# Altium integrated library Misc Connector.IntLib: 28 symbols
Pins are listed as number, name and electrical type; pins without a type are passive.

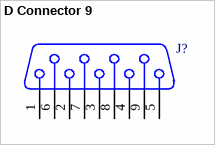
[diagram p0: symbol D Connector 9]

## D Connector 9
designator J?
Receptacle Assembly, 9 Position, Right Angle; PackageDocument: O; Positions: 9; Published: 15-Jun-2001; LatestRevisionDate: 17-Jul-2002; LatestRevisionNote: Re-released for DXP Platform.; DatasheetDocument: 1-Sep-1999; PackageReference: 788750; Publisher: Altium Limited; Orientation: Right Angle; Gender: Receptacle
footprint DSUB1.385-2H9 (Connector; D Subminiature; 9 Position; Right Angle; Pitch 1.385 mm)
footprint DSUB1.385-2H9 (Connector; D Subminiature; 9 Position; Right Angle; Pitch 1.385 mm)
footprint DSUB1.385-2H9 (Connector; D Subminiature; 9 Position; Right Angle; Pitch 1.385 mm)
pins: 1, 2, 3, 4, 5, 6, 7, 8, 9, 10 MH1 hidden, 11 MH2 hidden


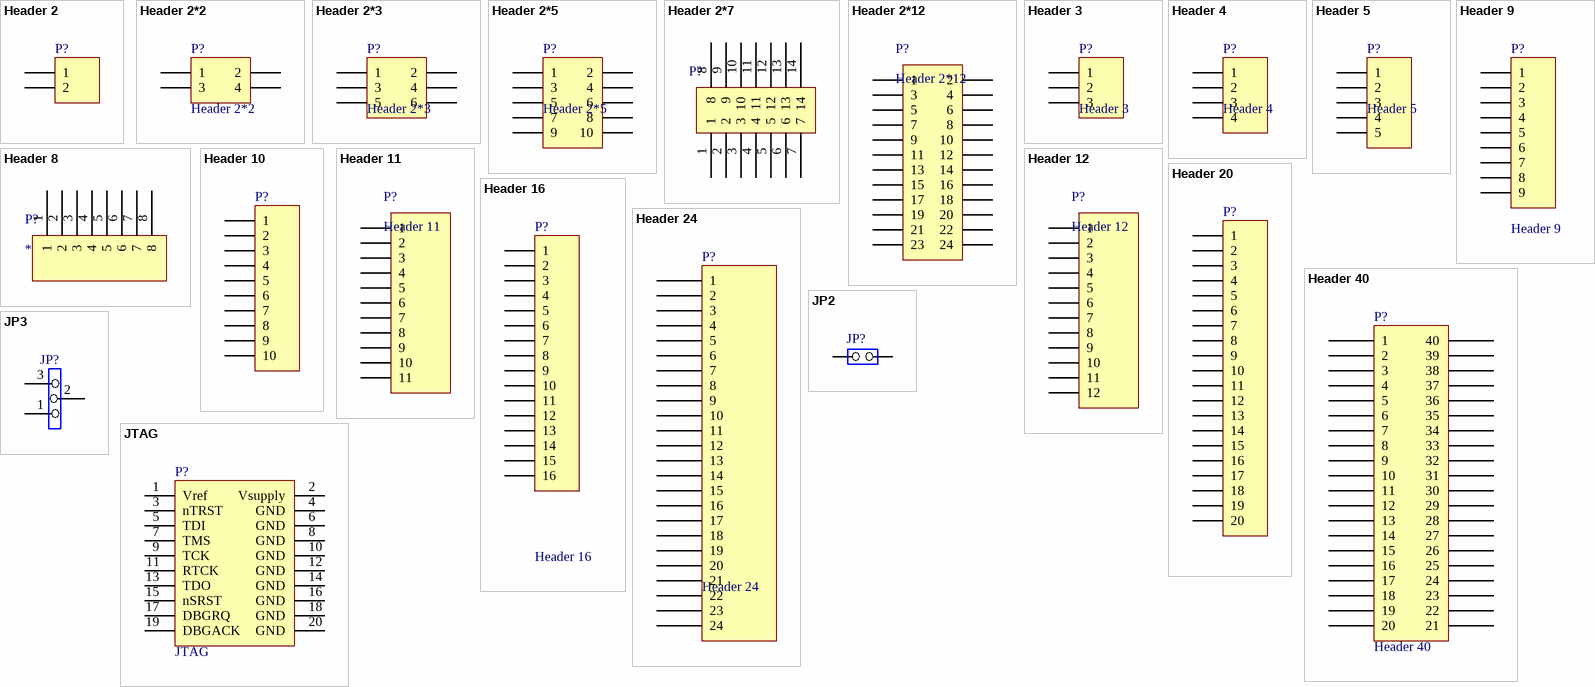
[diagram p1: symbols Header 2 to JTAG]

## Header 2
designator P?
Header, 2-Pin; LatestRevisionDate: 17-Jul-2002; LatestRevisionNote: Re-released for DXP Platform.; Publisher: Altium Limited
footprint HDR1X2 (Connector; Header; 2 Position)
signal-integrity model Connector
pins: 1, 2

## Header 2*2
designator P?
Header, 4-Pin, Dual row
footprint HDR2X2 (Connector; Header; 2x2 Position)
signal-integrity model Connector
pins: 1, 2, 3, 4

## Header 2*3
designator P?
Header, 6-Pin, Dual row
signal-integrity model Connector
footprint HDR2X3T0.05 (Connector; Header; 2x3 Position)
pins: 1, 2, 3, 4, 5, 6

## Header 2*5
designator P?
Header, 10-Pin, Dual row
signal-integrity model Connector
footprint HDRSMT2x5 (Connector; Header; 2*5 Position; SMT)
footprint HDR2X5T0.1 (Connector; Header; 2x5 Position; 2.54mm Pitch)
pins: 1, 2, 3, 4, 5, 6, 7, 8, 9, 10

## Header 2*7
designator P?
Header, 14-Pin, Dual row
footprint HDR2X7_NJZ (Connector; Header; 7x2 Position)
pins: 1, 2, 3, 4, 5, 6, 7, 8, 9, 10, 11, 12, 13, 14

## Header 2*12
designator P?
Header, 24-Pin, Dual row
footprint HDR2X12S0.05 (Header 2*12 PIN, 1.27mm, SMT)
pins: 1, 2, 3, 4, 5, 6, 7, 8, 9, 10, 11, 12, 13, 14, 15, 16, 17, 18, 19, 20, 21, 22, 23, 24

## Header 3
designator P?
Header, 3-Pin; LatestRevisionDate: 17-Jul-2002; LatestRevisionNote: Re-released for DXP Platform.; Publisher: Altium Limited
signal-integrity model Connector
footprint HDR1X3 (Connector; Header; 3 Position)
pins: 1, 2, 3

## Header 4
designator P?
Header, 4-Pin; LatestRevisionDate: 17-Jul-2002; LatestRevisionNote: Re-released for DXP Platform.; Publisher: Altium Limited
signal-integrity model Connector
footprint HDR1X4 (Connector; Header; 4 Position)
footprint HDR1X4T0.05 (Connector; Header; 4 Position)
pins: 1, 2, 3, 4

## Header 5
designator P?
Header, 5-Pin; LatestRevisionDate: 17-Jul-2002; LatestRevisionNote: Re-released for DXP Platform.; Publisher: Altium Limited
footprint HDR1X5 (Connector; Header; 5 Position)
pins: 1, 2, 3, 4, 5

## Header 8
designator P?
Header, 8-Pin
footprint HDR1X8 (Connector; Header; 8 Position)
pins: 1, 2, 3, 4, 5, 6, 7, 8

## Header 9
designator P?
Header, 9-Pin; LatestRevisionDate: 17-Jul-2002; LatestRevisionNote: Re-released for DXP Platform.; Publisher: Altium Limited
signal-integrity model Connector
footprint HDR1X9T0.05 (Connector; Header; 9 Position)
pins: 1, 2, 3, 4, 5, 6, 7, 8, 9

## Header 10
designator P?
Header, 10-Pin; LatestRevisionDate: 17-Jul-2002; LatestRevisionNote: Re-released for DXP Platform.; Publisher: Altium Limited
footprint HDR1X10 (Connector; Header; 10 Position)
signal-integrity model Connector
footprint HDR1X10T0.05 (Connector; Header; 10 Position)
pins: 1, 2, 3, 4, 5, 6, 7, 8, 9, 10

## Header 11
designator P?
Header, 11-Pin
footprint HDR1X11S0.05 (Header 11 PIN, 1.27mm, SMT)
pins: 1, 2, 3, 4, 5, 6, 7, 8, 9, 10, 11

## Header 12
designator P?
Header, 12-Pin
footprint HEADER127P_SMT-12N (HEADER, SMT, 12-Leads, Body 15.24x2.50mm, Pitch 1.27mm, IPC Medium Density)
footprint HDR1X12S0.05 (Header 12 PIN, 1.27mm, SMT)
pins: 1, 2, 3, 4, 5, 6, 7, 8, 9, 10, 11, 12

## Header 16
designator P?
Header, 16-Pin; LatestRevisionDate: 17-Jul-2002; LatestRevisionNote: Re-released for DXP Platform.; Publisher: Altium Limited
signal-integrity model Connector
footprint HDR1X16 (Connector; Header; 16 Position)
pins: 1, 2, 3, 4, 5, 6, 7, 8, 9, 10, 11, 12, 13, 14, 15, 16

## Header 20
designator P?
Header, 20-Pin; LatestRevisionDate: 17-Jul-2002; LatestRevisionNote: Re-released for DXP Platform.; Publisher: Altium Limited
footprint HDR1X20 (Connector; Header; 20 Position)
signal-integrity model Connector
pins: 1, 2, 3, 4, 5, 6, 7, 8, 9, 10, 11, 12, 13, 14, 15, 16, 17, 18, 19, 20

## Header 24
designator P?
Header, 24-Pin; LatestRevisionDate: 17-Jul-2002; LatestRevisionNote: Re-released for DXP Platform.; Publisher: Altium Limited
signal-integrity model Connector
footprint HDR1X24 (Connector; Header; 24 Position)
pins: 1, 2, 3, 4, 5, 6, 7, 8, 9, 10, 11, 12, 13, 14, 15, 16, 17, 18, 19, 20, 21, 22, 23, 24

## Header 40
designator P?
Header, 40-Pin; LatestRevisionDate: 17-Jul-2002; LatestRevisionNote: Re-released for DXP Platform.; Publisher: Altium Limited
signal-integrity model Connector
footprint HDR1X40 (Connector; Header; 40 Position)
pins: 1, 2, 3, 4, 5, 6, 7, 8, 9, 10, 11, 12, 13, 14, 15, 16, 17, 18, 19, 20, 21, 22, 23, 24, 25, 26, 27, 28, 29, 30, 31, 32, 33, 34, 35, 36, 37, 38, 39, 40

## JP2
designator JP?
Jumper 2
footprint SIP2/2.54
pins: 1 COMMON, 2 NO

## JP3
designator JP?
Jumper 3
footprint SIP3/2.54
pins: 1, 2, 3

## JTAG
designator P?
Header, JTAG; Manufacturer: On Shore Technology Inc.; PartNumber: 302-S201; LatestRevisionDate: 17-Apr-2019; LatestRevisionNote: Re-released for DXP Platform.; Publisher: Wentao SUN; Package: HDR2X10/T2.54/B2C; PackageDescription: Connector; Header; 10x2 Position; Pitch 2.54mm; Style Board to Cable;; Supplier 1: Digi-Key; Supplier Part Number 1: ED10524-ND; ComponentLink1Description: Digi-Key; ComponentLink1URL: https://www.digikey.com/products/en?keywords=ED10524-ND
signal-integrity model Connector
footprint HDR2X10/T2.54/B2C (Connector; Header; 10x2 Position; Pitch 2.54mm; Style Board to Cable;)
pins: 1 Vref, 2 Vsupply, 3 nTRST, 4 GND, 5 TDI, 6 GND, 7 TMS, 8 GND, 9 TCK, 10 GND, 11 RTCK, 12 GND, 13 TDO, 14 GND, 15 nSRST, 16 GND, 17 DBGRQ, 18 GND, 19 DBGACK, 20 GND


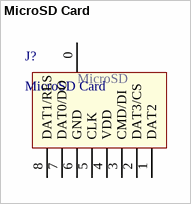
[diagram p2: symbol MicroSD Card]

## MicroSD Card
designator J?
footprint MicroSD Card (MicroSD卡卡座)
pins: 0, 1 DAT2, 2 DAT3/CS, 3 CMD/DI, 4 VDD, 5 CLK, 6 GND, 7 DAT0/DO, 8 DAT1/RES
text: MicroSD


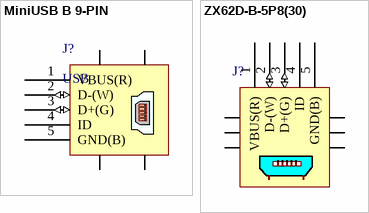
[diagram p3: symbols MiniUSB B 9-PIN to ZX62D-B-5P8(30)]

## MiniUSB B 9-PIN
designator J?, comment USB
Mini USB receptable
footprint USB/SM0.8-6H5 (Connector; USB2.0, Type B, SM; 5 Position; Right Angle)
pins: 1 VBUS(R) (power) "+5V Red", 2 D-(W) (io) "Data negative", 3 D+(G) (io) "Data positive", 4 ID "A connected to GND; B NC", 5 GND(B) (power) "GND", 6, 7, 8, 9

## ZX62D-B-5P8(30)
designator J?
USB - micro B USB 2.0 Receptacle Connector 5-Pin; Manufacturer: Hirose Electric Co Ltd; PartNumber: ZX62D-B-5P8(30); Package: USB2.0-4H5; PackageDescription: USB Micro B, 0.65mm Pitch, 4 holes; Supplier 1: Digi-Key; Supplier Part Number 1: H125272TR-ND; ComponentLink1URL: https://www.digikey.com/products/en?keywords=H125272TR-ND; ComponentLink1Description: Digi-Key
footprint USB2.0-4H5 (USB Micro B, 0.65mm Pitch, 4 holes)
pins: 1 VBUS(R) (power) "+5V Red", 2 D-(W) (io) "Data negative", 3 D+(G) (io) "Data positive", 4 ID "A connected to GND; B NC", 5 GND(B) (power) "GND", 6, 7, 8, 9, 10, 11


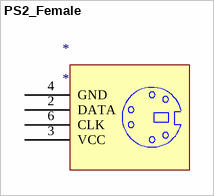
[diagram p4: symbol PS2_Female]

## PS2_Female
designator *
footprint PS2_Female (PS2键盘接口（母头）)
pins: 1 NC hidden, 2 DATA, 3 VCC, 4 GND, 5 NC hidden, 6 CLK


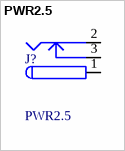
[diagram p5: symbol PWR2.5]

## PWR2.5
designator J?
Low Voltage Power Supply Connector; Published: 17-Dec-2003; DatasheetDocument: 09-May-2002; Publisher: Altium Limited; ComponentLink1Description: Manufacturer Link; ComponentLink1URL: http://domino.kycon.com/internet/Products.html
footprint PWR_connector (低压直流电源插入接口)
pins: 1 (power), 2 (power), 3 (power)


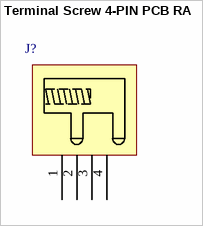
[diagram p6: symbol Terminal Screw 4-PIN PCB RA]

## Terminal Screw 4-PIN PCB RA
designator J?
Terminal Screw 4-PIN, Thru Hole, PCB Right Angle
footprint TERMSCREW4-B11.5X8.5X7.8mm/T5.0X7.5mm/RA (Terminal Screw, 4-PIN, Body 11.5mm(L) * 8.5mm(W) * 7.8mm(H), Thru Hole, 5.0mm * 7.5mm Pitch, Right Angle)
footprint TERMSCREW4-B11.5X8.5X7.8mm/T5.0X7.5mm/RA (Terminal Screw, 4-PIN, Body 11.5mm(L) * 8.5mm(W) * 7.8mm(H), Thru Hole, 5.0mm * 7.5mm Pitch, Right Angle)
pins: 1, 2, 3, 4